# Altium footprint library SysPcbLib.PcbLib: 20 footprints (part 1 of 2)
Each footprint in its own frame and in the unit in brackets; x right, y up, seen from the top. Pads: shape width x height; smd on the part's side, far side on the other; paste and mask are expansions set on the pad; w line width, h text height; cw(c..) or ccw(c..) is an arc to the next point about the centre after c.
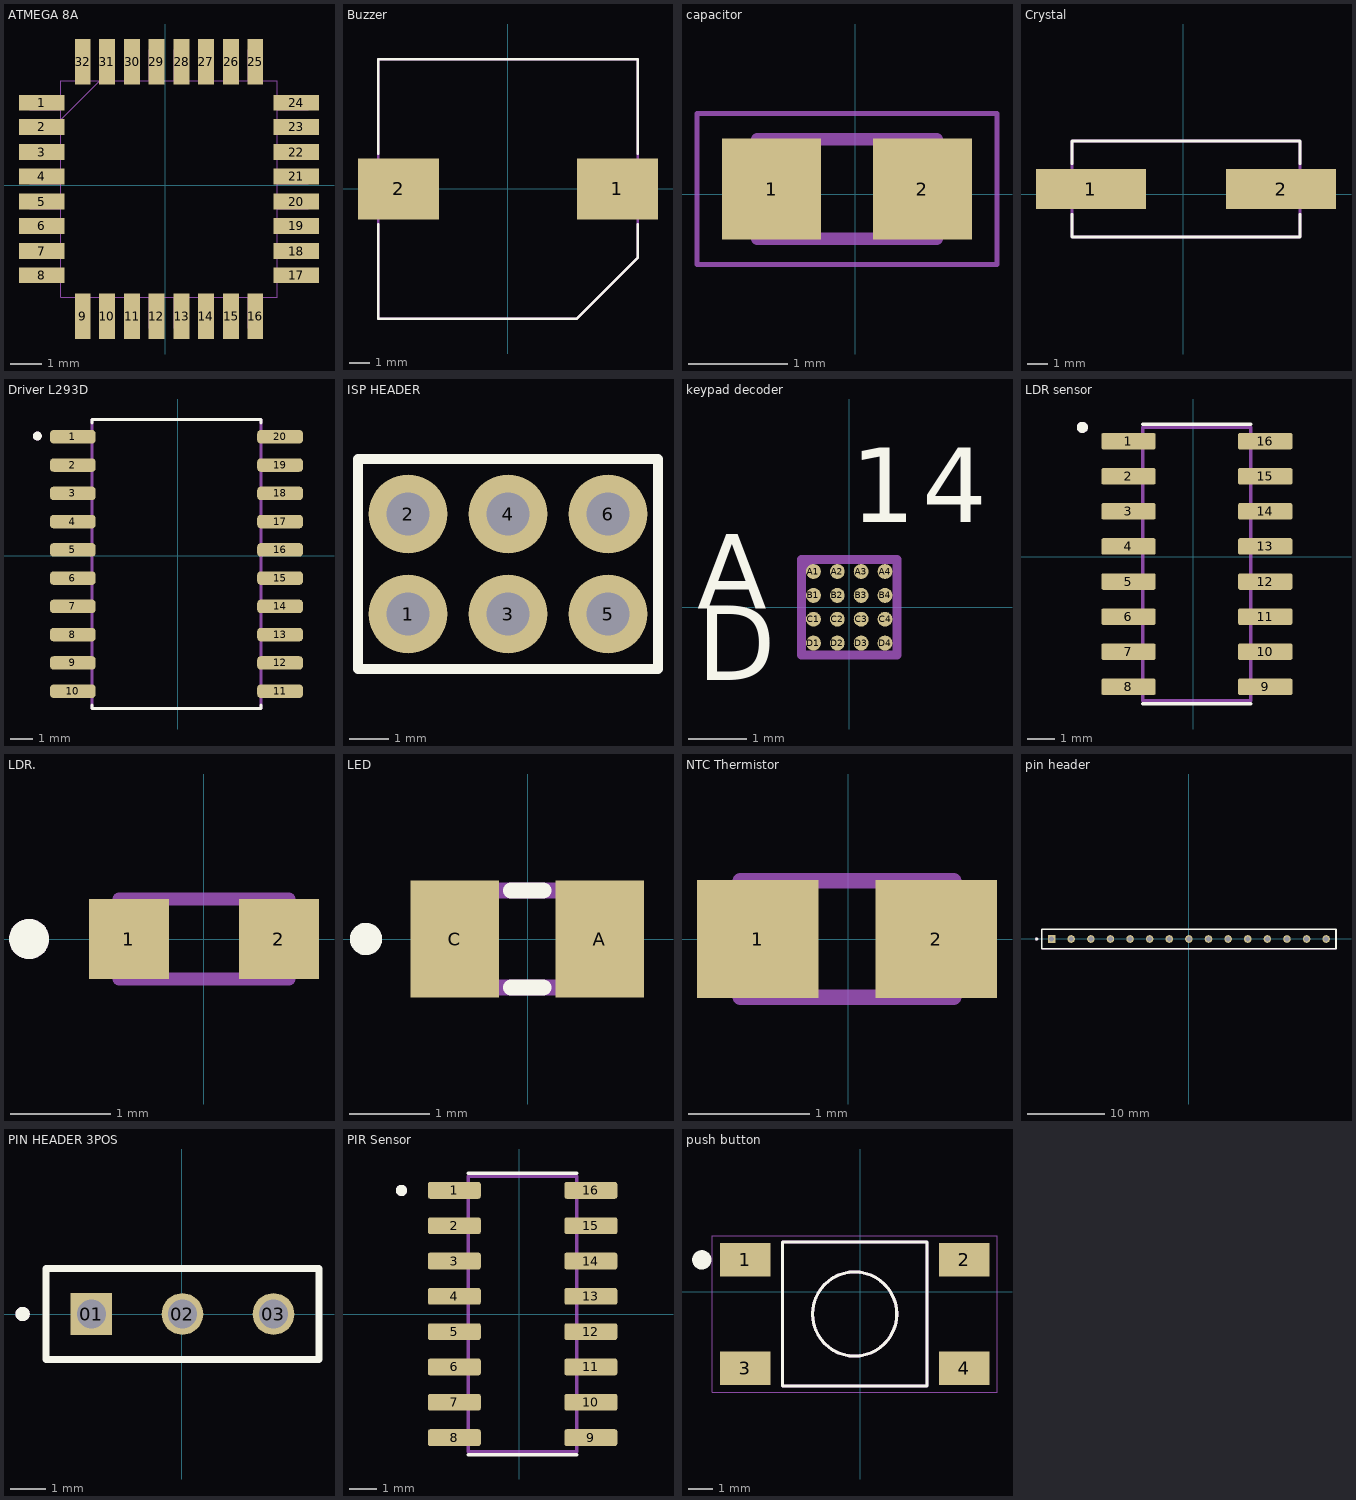
[diagram p0: the footprints below, top view; thin cyan lines are the x and y axes]

## ATMEGA 8A [mil]
pads (32):
  rect 58x20 smd: 1(-157,105) 2(-157,74) 3(-157,42) 4(-157,11) 5(-157,-21) 6(-157,-52) 7(-157,-84) 8(-157,-115) 17(167,-115) 18(167,-84) 19(167,-52) 20(167,-21) 21(167,11) 22(167,42) 23(167,74) 24(167,105)
  rect 20x58 smd: 9(-105,-167) 10(-74,-167) 11(-42,-167) 12(-11,-167) 13(21,-167) 14(52,-167) 15(84,-167) 16(115,-167) 25(115,157) 26(84,157) 27(52,157) 28(21,157) 29(-11,157) 30(-42,157) 31(-74,157) 32(-105,157)
Mechanical 29:
  drawing of 169 lines, arcs and shapes, not listed
3D body "ATMEGA8A-AN.STEP": height 47.24, standoff 0, extent -172.17,-182.17 182.17,172.17

## Buzzer [mm]
pads (2):
  rect 4x3 smd: 1(5.4,0) 2(-5.4,0)
Top Overlay:
  lines w0.127: -6.4,-1.75 -6.4,-6.4 3.4,-6.4 6.4,-3.4 6.4,-1.75 ; -6.4,1.75 -6.4,6.4 6.4,6.4 6.4,1.75
Mechanical 29:
  lines w0.127: -6.4,-6.4 -6.4,6.4 6.4,6.4 6.4,-3.4 3.4,-6.4 -6.4,-6.4
3D body "CUI_DEVICES_CT-1205H-SMT-TR.step": height 9.4, standoff -0.6, extent -6.9,-6.4 6.9,6.4

## capacitor [mm]
pads (2):
  rect 1x1.02 smd: 1(-0.84,0.053) 2(0.678,0.053)
Mechanical 29:
  lines w0.127: -0.981,-0.447 0.819,-0.447 0.819,0.553 -0.981,0.553 -0.981,-0.447
Mechanical 15:
  lines w0.05: -1.589,-0.705 1.427,-0.705 1.427,0.811 -1.589,0.811 -1.589,-0.705
3D body "GRM188Z71A106KA73D.STEP": height 0.8, standoff 0, extent -0.881,-0.447 0.719,0.553

## Crystal [mm]
pads (2):
  rect 5.5x2 smd: 1(-4.623,0.254) 2(4.877,0.254)
Top Overlay:
  lines w0.127: -5.573,-1 -5.573,-2.146 5.827,-2.146 5.827,-1 ; -5.573,1.508 -5.573,2.654 5.827,2.654 5.827,1.508
Mechanical 29:
  lines w0.127: -5.573,-2.146 -5.573,2.654 5.827,2.654 5.827,-2.146 -5.573,-2.146
3D body "step_temp.STEP": height 4.3, standoff 0, extent -6.473,-2.136 6.727,2.664

## Driver L293D [mm]
pads (20):
  rrect50% 2.05x0.6 smd: 1(-4.707,5.351) 2(-4.707,4.081) 3(-4.707,2.811) 4(-4.707,1.541) 5(-4.707,0.271) 6(-4.707,-0.999) 7(-4.707,-2.269) 8(-4.707,-3.539) 9(-4.707,-4.809) 10(-4.707,-6.079) 11(4.603,-6.079) 12(4.603,-4.809) 13(4.603,-3.539) 14(4.603,-2.269) 15(4.603,-0.999) 16(4.603,0.271) 17(4.603,1.541) 18(4.603,2.811) 19(4.603,4.081) 20(4.603,5.351)
Top Overlay:
  circle w0.2: c-6.302,5.386 r0.1
  lines w0.127: -3.852,-6.694 -3.852,-6.864 3.748,-6.864 3.748,-6.694 ; -3.852,5.966 -3.852,6.136 3.748,6.136 3.748,5.966
Mechanical 29:
  circle w0.2: c-6.302,5.386 r0.1
  lines w0.127: -3.852,-6.864 -3.852,6.136 3.748,6.136 3.748,-6.864 -3.852,-6.864
3D body "L293DD--3DModel-STEP-56544.STEP": height 2.65, standoff 0, extent -5.135,-6.775 5.19,6.025

## ISP HEADER [mm] "SIL Header for programming"
height 5.84
pads (6):
  round 2 hole 1.1: 1(17.653,-14.097) 2(17.653,-11.557) 3(20.193,-14.097) 4(20.193,-11.557) 5(22.733,-14.097) 6(22.733,-11.557)
Top Overlay:
  lines w0.254: 16.383,-15.494 24.003,-15.494 24.003,-10.16 16.383,-10.16 16.383,-15.494
3D body "User Library-IDC6.STEP": height 8, standoff -3, extent 16.383,-15.367 24.003,-10.287

## keypad decoder [mil]
pads (16):
  round 10 smd: A1(-24,24) A2(-8,24) A3(8,24) A4(24,24) B1(-24,8) B2(-8,8) B3(8,8) B4(24,8) C1(-24,-8) C2(-8,-8) C3(8,-8) C4(24,-8) D1(-24,-24) D2(-8,-24) D3(8,-24) D4(24,-24)
Top Overlay:
  text "4" at 49.06,57.06 h50.06
  text "A" at -102.09,-1 h50.04
  text "D" at -102.07,-49.03 h50.03
  text "1" at 1,57 h50
Mechanical 29:
  lines w6: -32,24 -24,32 ; -32,-32 32,-32 32,32 -32,32 -32,-32
  text "4" at 49.05,57.06 h50.06
  text "1" at 1,57.11 h50.1
  text "A" at -102.08,-1 h50.04
  text "D" at -102.12,-49.06 h50.06
3D body "ADP5585ACBZ-00-R7--3DModel-STEP-269445.STEP": height 21.46, standoff 0, extent -32.6,-31.3 30,31.3

## LDR sensor [mm]
pads (16):
  rrect25% 1.97x0.6 smd: 1(-2.348,4.191) 2(-2.348,2.921) 3(-2.348,1.651) 4(-2.348,0.381) 5(-2.348,-0.889) 6(-2.348,-2.159) 7(-2.348,-3.429) 8(-2.348,-4.699) 9(2.602,-4.699) 10(2.602,-3.429) 11(2.602,-2.159) 12(2.602,-0.889) 13(2.602,0.381) 14(2.602,1.651) 15(2.602,2.921) 16(2.602,4.191)
Top Overlay:
  circle w0.2: c-4.018,4.691 r0.1
  lines w0.127: -1.823,-5.319 2.077,-5.319 ; -1.823,4.811 2.077,4.811
Mechanical 29:
  circle w0.2: c-4.018,4.691 r0.1
  lines w0.127: -1.823,-5.204 2.077,-5.204 2.077,4.696 -1.823,4.696 -1.823,-5.204
3D body "TPL7407LDR.STEP": height 1.75, standoff 0, extent -2.873,-5.204 3.127,4.696

## LDR. [mm]
pads (2):
  rect 0.8x0.8 smd: 1(-0.75,0) 2(0.75,0)
Top Overlay:
  circle w0.2: c-1.75,0 r0.1
Mechanical 29:
  circle w0.2: c-1.75,0 r0.1
  lines w0.127: -0.85,-0.4 0.85,-0.4 0.85,0.4 -0.85,0.4 -0.85,-0.4
3D body "step_temp.STEP": height 0.6, standoff 0, extent -0.85,-0.4 0.85,0.4

## LED [mm]
pads (2):
  rect 1.1x1.45 smd: A(0.892,0) C(-0.908,0)
Top Overlay:
  circle w0.2: c-2.008,0 r0.1
  lines w0.2: -0.208,-0.6 0.192,-0.6 ; -0.208,0.6 0.192,0.6
Mechanical 29:
  region: 0.992,-0.6 0.492,-0.6 0.492,0.6 0.992,0.6
  region: -0.508,-0.6 -1.008,-0.6 -1.008,0.6 -0.508,0.6
  lines w0.2: -1.008,-0.6 -1.008,0.6 0.992,0.6 0.992,-0.6 -1.008,-0.6
3D body "597-5411-402F.STEP": height 0.7, standoff 0, extent -1.1,-0.625 0.9,0.625

## NTC Thermistor [mm]
pads (2):
  rect 1x0.97 smd: 1(-0.744,0) 2(0.726,0)
Mechanical 29:
  lines w0.127: -0.889,-0.48 0.871,-0.48 0.871,0.48 -0.889,0.48 -0.889,-0.48
3D body "NCP18XM472E03RB.STEP": height 0.78, standoff -0.02, extent -0.809,-0.47 0.791,0.48

## PCBComponent_1 [mil]

## pin header [mm]
pads (15):
  rect 0.985x0.985 hole 0.635: 01(-17.79,-0.005)
  round 0.985 hole 0.635: 02(-15.25,-0.005) 03(-12.71,-0.005) 04(-10.17,-0.005) 05(-7.63,-0.005) 06(-5.09,-0.005) 07(-2.55,-0.005) 08(-0.01,-0.005) 09(2.53,-0.005) 10(5.07,-0.005) 11(7.61,-0.005) 12(10.15,-0.005) 13(12.69,-0.005) 14(15.23,-0.005) 15(17.77,-0.005)
Top Overlay:
  circle w0.2: c-19.71,-0.005 r0.1
  lines w0.2: -19.06,-1.275 -19.06,1.265 19.04,1.265 19.04,-1.275 -19.06,-1.275
Mechanical 29:
  circle w0.2: c-19.71,-0.005 r0.1
  lines w0.1: -19.06,-1.275 -19.06,1.265 ; -19.06,-1.275 19.04,-1.275 ; -19.06,-1.275 -19.06,1.265 ; -19.06,1.265 19.04,1.265 ; -19.06,1.265 19.04,1.265 ; 19.04,-1.275 19.04,1.265 ; 19.04,-1.275 19.04,1.265
3D body "TS-115-G-AA.stp": height 8.28, standoff -3.84, extent -19.162,-1.275 19.142,1.265

## PIN HEADER 3POS [mil]
pads (3):
  rect 45.78x45.78 / inner round 45.78 / far side rect 45.78x45.78 hole 32: 01(-99.02,0)
  round 45.78 hole 32: 02(0.98,0) 03(100.98,0)
Top Overlay:
  circle w7.87: c-174.61,0 r3.94
  lines w7.87: -149.02,-50 150.98,-50 150.98,50 -149.02,50 -149.02,-50
Mechanical 29:
  circle w7.87: c-174.61,0 r3.94
  lines w3.94: -149.02,-50 -149.02,50 ; -149.02,-50 150.98,-50 ; -149.02,-50 -149.02,50 ; -149.02,50 150.98,50 ; -149.02,50 150.98,50 ; 150.98,-50 150.98,50 ; 150.98,-50 150.98,50
3D body "TS-103-T-A-1.stp": height 326, standoff -204, extent -153.02,-50 154.98,50

## PIR Sensor [mm]
pads (16):
  rrect25% 1.9x0.6 smd: 1(-2.328,4.445) 2(-2.328,3.175) 3(-2.328,1.905) 4(-2.328,0.635) 5(-2.328,-0.635) 6(-2.328,-1.905) 7(-2.328,-3.175) 8(-2.328,-4.445) 9(2.582,-4.445) 10(2.582,-3.175) 11(2.582,-1.905) 12(2.582,-0.635) 13(2.582,0.635) 14(2.582,1.905) 15(2.582,3.175) 16(2.582,4.445)
Top Overlay:
  circle w0.2: c-4.228,4.445 r0.1
  lines w0.127: -1.823,-5.065 2.077,-5.065 ; -1.823,5.065 2.077,5.065
Mechanical 29:
  circle w0.2: c-4.228,4.445 r0.1
  lines w0.127: -1.823,-4.95 -1.823,4.95 2.077,4.95 2.077,-4.95 -1.823,-4.95
3D body "step_temp.STEP": height 1.75, standoff 0, extent -2.87,-4.953 3.124,4.953

## push button [mm]
pads (4):
  rect 2.1x1.4 smd: 1(-4.778,1.334) 2(4.322,1.334) 3(-4.778,-3.166) 4(4.322,-3.166)
Top Overlay:
  circle w0.4: c-6.578,1.334 r0.2
  circle w0.127: c-0.228,-0.916 r1.75
  lines w0.127: -3.228,-3.913 -3.228,2.084 2.772,2.084 2.772,-3.916 -3.22,-3.916
Mechanical 29:
  circle w0.127: c-0.228,-0.916 r1.75
  lines w0.127: -3.228,-3.916 -3.228,2.084 2.772,2.084 2.772,-3.916 -3.228,-3.916
Mechanical 15:
  lines w0.05: -6.142,-4.166 -6.142,2.334 5.686,2.334 5.686,-4.166 -6.142,-4.166
3D body "step_temp.STEP": height 7.26, standoff 0, extent -5.228,-3.916 4.772,2.084